# Altium schematic symbol library LM21215AMHE-1.SchLib: 1 symbol
Pins are listed as number, name and electrical type; pins without a type are passive.

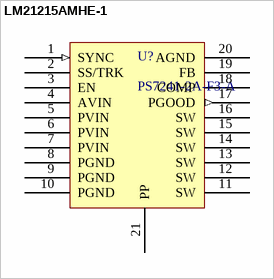
[diagram p0: symbol LM21215AMHE-1]

## LM21215AMHE-1
designator U?, comment PS7241-2A-F3-A
pins: 1 SYNC (in), 2 SS/TRK, 3 EN, 4 AVIN, 5 PVIN, 6 PVIN, 7 PVIN, 8 PGND, 9 PGND, 10 PGND, 11 SW, 12 SW, 13 SW, 14 SW, 15 SW, 16 SW, 17 PGOOD (out), 18 COMP, 19 FB, 20 AGND, 21 PP
1 alternate drawing of the same symbol